# EAGLE library part AD7327 (library Gemelke_Lab)
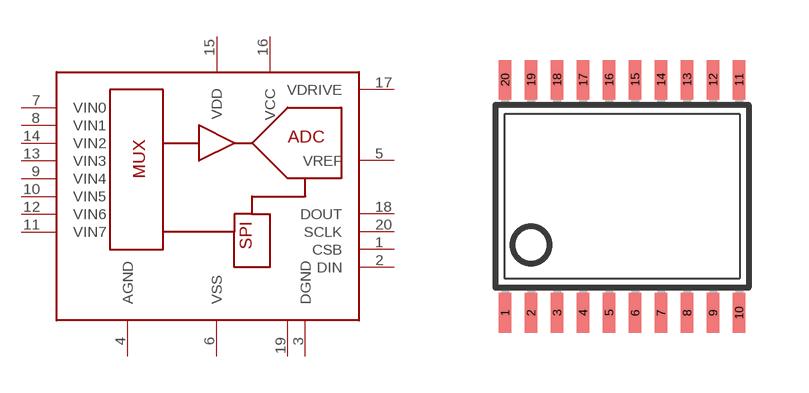
[diagram p4: symbol with the pads of TSSOP20; footprint TSSOP20]

Designator prefix -

## AD7327  [TSSOP20]
1  CSB  in
2  DIN  in
3  DGND  pwr
4  AGND  pwr
5  VREF  in
6  VSS  pwr
7  VIN0  in
8  VIN1  in
9  VIN4  in
10  VIN5  in
11  VIN7  in
12  VIN6  in
13  VIN3  in
14  VIN2  in
15  VDD  pwr
16  VCC  pwr
17  VDRIVE  pwr
18  DOUT  out
19  DGND2  pwr
20  SCLK  in

## Footprint TSSOP20 (pad centres in mm)
smd 0.305 x 0.991: 1 -2.925,-2.918; 2 -2.275,-2.918; 3 -1.625,-2.918; 4 -0.975,-2.918; 5 -0.325,-2.918; 6 0.325,-2.918; 7 0.975,-2.918; 8 1.625,-2.918; 9 2.275,-2.918; 10 2.925,-2.918; 11 2.925,2.918; 12 2.275,2.918; 13 1.625,2.918; 14 0.975,2.918; 15 0.325,2.918; 16 -0.325,2.918; 17 -0.975,2.918; 18 -1.625,2.918; 19 -2.275,2.918; 20 -2.925,2.918